# Altium schematic symbol library MicroSD_Connector.SchLib: 1 symbol
Pins are listed as number, name and electrical type; pins without a type are passive.

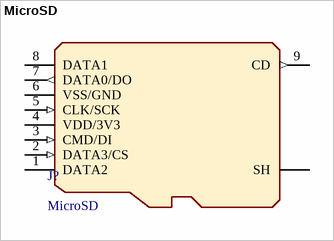
[diagram p0: symbol MicroSD]

## MicroSD
designator J?
Micro SD Memory Card Connector; Value: MicroSD
pins: 1 DATA2, 2 DATA3/CS (in), 3 CMD/DI (in), 4 VDD/3V3 (power), 5 CLK/SCK (in), 6 VSS/GND (power), 7 DATA0/DO (out), 8 DATA1, 9 CD (out), SH